# Altium schematic symbol library Schlib1.SchLib: 2 symbols
Pins are listed as number, name and electrical type; pins without a type are passive.

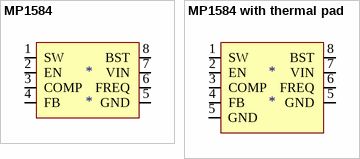
[diagram p0: symbols MP1584 to MP1584 with thermal pad]

## MP1584
designator *
pins: 1 SW (out), 2 EN (in), 3 COMP (out), 4 FB (in), 5 GND (power), 6 FREQ (in), 7 VIN (power), 8 BST

## MP1584 with thermal pad
designator *
pins: 1 SW (out), 2 EN (in), 3 COMP (out), 4 FB (in), 5 GND (power), 5 GND (power), 6 FREQ (in), 7 VIN (power), 8 BST